# Altium footprint library USB_PD_DVD.PcbLib: 27 footprints (part 2 of 2)
Each footprint in its own frame and in the unit in brackets; x right, y up, seen from the top. Pads: shape width x height; smd on the part's side, far side on the other; paste and mask are expansions set on the pad; w line width, h text height; cw(c..) or ccw(c..) is an arc to the next point about the centre after c.
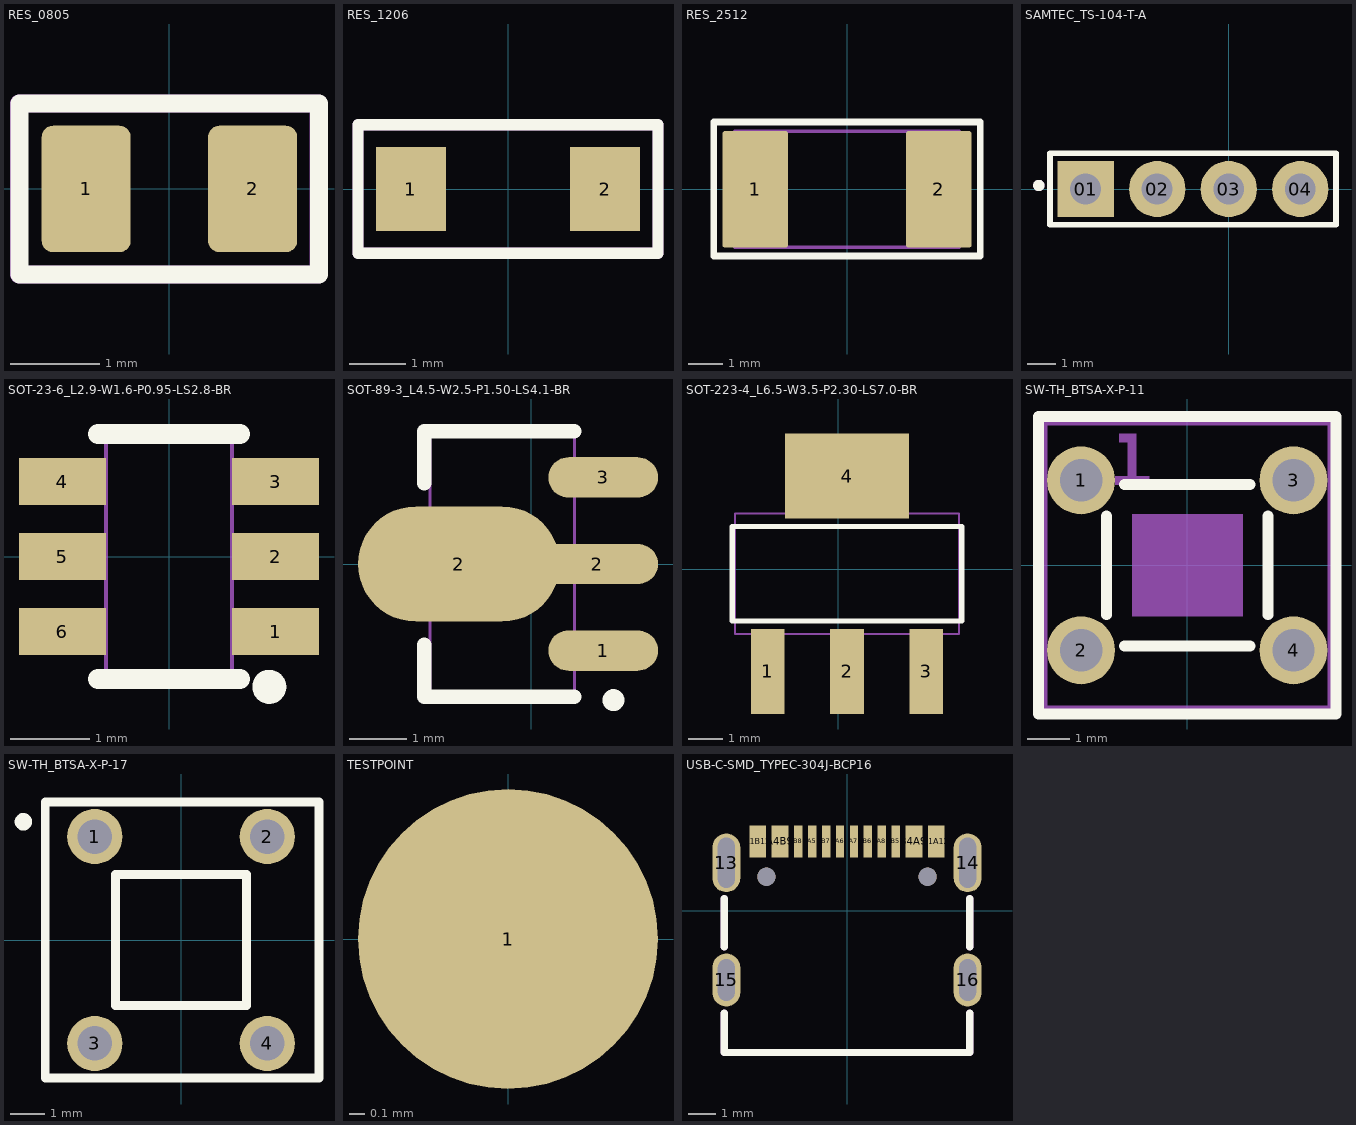
[diagram p1: the footprints below, top view; thin cyan lines are the x and y axes]

## RES_0805 [mm]
pads (2):
  rrect25% 1x1.42 smd: 1(-0.935,0) 2(0.935,0)
Top Overlay:
  lines w0.2: -1.685,-0.962 1.681,-0.962 1.681,0.958 -1.685,0.958 -1.685,-0.962
Top Assembly:
  lines w0.2: -1.69,-0.96 -1.69,0.96 1.676,0.96 1.676,-0.96 -1.69,-0.96
  text ".Designator" at -1.789,-0.187 h1
3D body "User Library-RES0805-2.x_b": height 0.55, standoff 0, extent -0.993,-0.58 1.007,0.67

## RES_1206 [mm]
pads (2):
  rect 1.25x1.5 smd: 1(-1.725,0) 2(1.725,0)
Top Overlay:
  lines w0.2: -2.667,-1.143 -2.667,1.143 -1.778,1.143 2.667,1.143 2.667,-1.143 -2.667,-1.143
Top Assembly:
  lines w0.2: -2.667,-1.143 2.667,-1.143 2.667,1.143 -1.778,1.143 -2.667,1.143 -2.667,-1.143
  text ".Designator" at -2.255,-0.298 h1
3D body "Resistor 1206.step": height 0.6, standoff 0, extent -1.876,-0.778 1.924,0.822

## RES_2512 [mm]
pads (2):
  rrect7% 1.9x3.37 smd: 1(-2.66,0) 2(2.66,0)
Top Overlay:
  lines w0.2: -3.86,-1.931 -3.86,1.949 3.86,1.949 3.86,-1.931 -3.86,-1.931
Top Assembly:
  lines w0.1: -3.25,-1.68 -3.25,1.68 3.25,1.68 3.25,-1.68 -3.25,-1.68
  text ".Designator" at -1.755,-0.198 h1
3D body "2-2176070-7.stp": height 0.53, standoff -0.03, extent -3.277,-1.6 3.023,1.6

## SAMTEC_TS-104-T-A [mm]
pads (4):
  rect 2x2 hole 1.1: 01(-5.08,0)
  round 2 hole 1.1: 02(-2.54,0) 03(0,0) 04(2.54,0)
Top Overlay:
  circle w0.2: c-6.746,0.127 r0.1
  lines w0.2: -6.35,-1.27 -6.35,1.27 3.81,1.27 3.81,-1.27 -6.35,-1.27
Top Assembly:
  circle w0.2: c-6.746,0.127 r0.1
  lines w0.1: -6.35,-1.27 -6.35,1.27 ; -6.35,-1.27 -6.35,1.27 ; -6.35,-1.27 3.81,-1.27 ; -6.35,1.27 3.81,1.27 ; -6.35,1.27 3.81,1.27 ; 3.81,-1.27 3.81,1.27 ; 3.81,-1.27 3.81,1.27
  text ".Designator" at -2.53,-0.147 h1

## SOT-23-6_L2.9-W1.6-P0.95-LS2.8-BR [mm]
pads (6):
  rect 1.1x0.6 smd paste+0 mask+0.051: 1(1.35,-0.95) 2(1.35,0) 3(1.35,0.95) 4(-1.35,0.95) 5(-1.35,0) 6(-1.35,-0.95)
Top Overlay:
  circle w0.254: c1.27,-1.651 r0.089
  lines w0.254: -0.9,-1.55 0.9,-1.55 ; -0.9,1.55 0.9,1.55
Top Assembly:
  region: -0.925,0.735 -0.925,1.165 -1.4,1.165 -1.4,0.735
  region: -0.935,-0.215 -0.935,0.215 -0.79,0.215 -0.79,-0.215
  region: 0.925,-1.165 0.925,-0.735 1.4,-0.735 1.4,-1.165
  region: -0.925,-0.215 -0.925,0.215 -1.4,0.215 -1.4,-0.215
  region: 0.935,1.165 0.935,0.735 0.79,0.735 0.79,1.165
  region: -0.925,-1.165 -0.925,-0.735 -1.4,-0.735 -1.4,-1.165
  region: 0.935,0.215 0.935,-0.215 0.79,-0.215 0.79,0.215
  region: 0.925,-0.215 0.925,0.215 1.4,0.215 1.4,-0.215
  region: 0.925,0.735 0.925,1.165 1.4,1.165 1.4,0.735
  region: 0.935,-0.735 0.935,-1.165 0.79,-1.165 0.79,-0.735
  region: -0.935,-1.165 -0.935,-0.735 -0.79,-0.735 -0.79,-1.165
  region: -0.935,0.735 -0.935,1.165 -0.79,1.165 -0.79,0.735
  region: 1.33,-1.584 1.33,-1.609 1.295,-1.644 1.245,-1.644 1.21,-1.609 1.21,-1.584 1.21,-1.559 1.245,-1.524 1.295,-1.524 1.33,-1.559 1.33,-1.584
  lines w0.051: -0.8,-1.45 -0.8,1.45 0.8,1.45 0.8,-1.45 -0.8,-1.45
  text ".Designator" at 0.16,-1.27 h0.5
Mechanical 6:
  circle w0.2: c1.4,-0.95 r0.1
3D body "User Library-TSOT-23-6(S6).x_t": height 1, standoff 0, extent -1.412,-1.45 1.412,1.45

## SOT-89-3_L4.5-W2.5-P1.50-LS4.1-BR [mm]
pads (4):
  oval 1.9x0.7 smd paste-100 mask+0.051: 1(1.25,-1.501) 3(1.25,1.501)
  oval 3.5x2 smd paste-100 mask+0.051: 2(-1.25,0)
  oval 2.1x0.7 smd paste-100 mask+0.051: 2(1.151,0)
Top Overlay:
  circle w0.254: c1.429,-2.36 r0.062
  lines w0.254: -1.85,-1.4 -1.85,-2.3 0.75,-2.3 ; -1.85,1.4 -1.85,2.3 0.75,2.3
Top Paste:
  drawing of 3 lines, arcs and shapes, not listed
Top Assembly:
  region: 1.524,-2.388 1.524,-2.413 1.489,-2.448 1.439,-2.448 1.404,-2.413 1.404,-2.388 1.404,-2.363 1.439,-2.328 1.489,-2.328 1.524,-2.363 1.524,-2.388
  region: 0.65,-1.294 0.65,-1.709 1.85,-1.709 1.85,-1.294
  region: 0.65,1.709 0.65,1.294 1.85,1.294 1.85,1.709
  region: 0.551,0.233 0.551,-0.233 1.85,-0.233 1.85,0.233
  region: -1.949,-0.8 -2.25,-0.499 -2.247,0.5 -1.943,0.8 -0.024,0.8 0.551,0.23 0.551,-0.23 -0.126,-0.8
  lines w0.051: -1.75,-2.25 -1.75,2.25 0.75,2.25 0.75,-2.25 -1.75,-2.25
  text ".Designator" at -0.242,-2.195 h1
Mechanical 6:
  circle w0.254: c1.455,-1.575 r0.127
3D body "ams1117.step": height 1.52, standoff 0, extent -2.127,-2.25 1.873,2.25

## SOT-223-4_L6.5-W3.5-P2.30-LS7.0-BR [mm]
pads (4):
  rect 0.98x2.47 smd: 1(-2.046,-2.962) 2(0.254,-2.962) 3(2.554,-2.962)
  rect 3.6x2.47 smd: 4(0.254,2.708)
Top Overlay:
  lines w0.152: -3.072,-1.498 3.58,-1.498 3.58,1.244 -3.072,1.244 -3.072,-1.498
Top Assembly:
  region: -2.396,-1.867 -1.696,-1.867 -1.696,-2.687 -2.396,-2.687
  region: 2.204,-2.677 2.904,-2.677 2.904,-3.627 2.204,-3.627
  region: 2.204,-1.867 2.904,-1.867 2.904,-2.687 2.204,-2.687
  region: -1.246,2.423 1.754,2.423 1.754,3.373 -1.246,3.373
  region: -1.246,2.433 1.754,2.433 1.754,1.613 -1.246,1.613
  region: -0.096,-2.677 0.604,-2.677 0.604,-3.627 -0.096,-3.627
  region: -0.096,-1.867 0.604,-1.867 0.604,-2.687 -0.096,-2.687
  region: -2.396,-2.677 -1.696,-2.677 -1.696,-3.627 -2.396,-3.627
  lines w0.051: -2.996,-1.877 3.504,-1.877 3.504,1.623 -2.996,1.623 -2.996,-1.877
  text ".Designator" at -2.322,-0.393 h1
3D body "CircuitWorks-SOT-223.x_t": height 1.7, standoff 0.02, extent -2.996,-3.607 3.504,3.353

## SW-TH_BTSA-X-P-11 [mm]
pads (4):
  round 1.6 hole 1: 1(-2.5,2) 2(-2.5,-2) 3(2.5,2) 4(2.5,-2)
Top Overlay:
  lines w0.254: -1.9,-1.162 -1.9,1.162 ; -1.474,-1.9 1.474,-1.9 ; -1.474,1.9 1.474,1.9 ; 1.9,-1.162 1.9,1.162 ; -3.5,-3.5 3.5,-3.5 3.5,3.5 -3.5,3.5 -3.5,-3.5
Top Assembly:
  region: -1.3,1.2 1.3,1.2 1.3,-1.2 -1.3,-1.2
  region: -1.4,3.1 -1.4,2.1 -1.2,2.1 -1.2,3.1
  region: -1.7,2.1 -0.9,2.1 -0.9,1.9 -1.7,1.9
  region: -1.4,3.1 -1.6,3.1 -1.6,2.9 -1.4,2.9
  region: -3.3,-3.5 3.3,-3.5 3.3,-3.3 -3.3,-3.3
  region: -3.3,3.5 3.5,3.5 3.5,-3.5 3.3,-3.5 3.3,3.3 -3.3,3.3
  region: -3.5,3.5 -3.5,-3.5 -3.3,-3.5 -3.3,3.5
Mechanical 15:
  region: -3.44,3.5 -3.44,3.475 -3.475,3.44 -3.525,3.44 -3.56,3.475 -3.56,3.5 -3.56,3.525 -3.525,3.56 -3.475,3.56 -3.44,3.525 -3.44,3.5
  region: -2.65,1.7 -2.65,2.3 -2.35,2.3 -2.35,1.7
  region: -2.65,-2.3 -2.65,-1.7 -2.35,-1.7 -2.35,-2.3
  region: 2.35,-2.3 2.35,-1.7 2.65,-1.7 2.65,-2.3
  region: 2.35,1.7 2.35,2.3 2.65,2.3 2.65,1.7
  lines w0.051: -3.5,-3.5 3.5,-3.5 3.5,3.5 -3.5,3.5 -3.5,-3.5
3D body "PVA1EEH1--3DModel-STEP-56544.STEP": height 17.84, standoff -3.4, extent -4.6,-4.773 4.6,5.027

## SW-TH_BTSA-X-P-17 [mm]
pads (4):
  round 1.6 hole 1: 1(-2.5,3) 2(2.5,3) 3(-2.5,-3) 4(2.5,-3)
Top Overlay:
  circle w0.254: c-4.572,3.429 r0.127
  lines w0.254: -3.937,-4 -3.937,4 4,4 4,-4 -3.937,-4 ; -1.9,-1.9 1.9,-1.9 1.9,1.9 -1.9,1.9 -1.9,-1.9
Top Assembly:
  region: -3.94,4 -3.94,3.975 -3.975,3.94 -4.025,3.94 -4.06,3.975 -4.06,4 -4.06,4.025 -4.025,4.06 -3.975,4.06 -3.94,4.025 -3.94,4
  lines w0.051: -4,-4 4,-4 4,4 -4,4 -4,-4
  text ".Designator" at -2.329,-0.173 h1
Mechanical 15:
  region: -2.8,3.15 -2.2,3.15 -2.2,2.85 -2.8,2.85
  region: 2.8,2.85 2.2,2.85 2.2,3.15 2.8,3.15
  region: 2.8,-3.15 2.2,-3.15 2.2,-2.85 2.8,-2.85
  region: -2.2,-3.15 -2.8,-3.15 -2.8,-2.85 -2.2,-2.85
3D body "PVA1EEH1--3DModel-STEP-56544.STEP": height 17.84, standoff -3.4, extent -4.9,-4.727 4.9,4.473

## TESTPOINT [mm]
pads (1):
  round 2 smd: 1(0,0)

## USB-C-SMD_TYPEC-304J-BCP16 [mm]
pads (18):
  oval 1x2.1 hole 0.6 slot 1.8 at 90 deg paste-2539.97 mask+0.051: 13(-4.325,1.719) 14(4.325,1.719)
  oval 1x1.9 hole 0.6 slot 1.5 at 90 deg paste-2539.97 mask+0.051: 15(-4.325,-2.481) 16(4.325,-2.481)
  rect 0.6x1.15 smd mask+0.04: A1B12(-3.2,2.481) A4B9(-2.4,2.481) B1A12(3.2,2.481) B4A9(2.4,2.481)
  rect 0.3x1.15 smd mask+0.04: A5(-1.25,2.481) A6(-0.25,2.481) A7(0.25,2.481) A8(1.25,2.481) B5(1.75,2.481) B6(0.75,2.481) B7(-0.75,2.481) B8(-1.75,2.481)
  round 0.65 hole 0.65 unplated paste-2539.97: ""(-2.89,1.219) ""(2.89,1.219)
Top Overlay:
  lines w0.254: -4.4,-3.659 -4.4,-5.081 4.4,-5.081 4.4,-3.659 ; -4.4,-1.304 -4.4,0.441 ; 4.4,-1.304 4.4,0.441
Top Paste:
  region: 3.825,-2.031 3.825,-1.932 3.901,-1.748 4.042,-1.607 4.226,-1.531 4.424,-1.531 4.608,-1.607 4.749,-1.748 4.825,-1.932 4.825,-2.031 4.825,-2.931 4.825,-3.031 4.749,-3.215 4.608,-3.355 4.424,-3.431 4.226,-3.431 4.042,-3.355 3.901,-3.215 3.825,-3.031 3.825,-2.931
  region: -4.825,-2.031 -4.825,-1.932 -4.749,-1.748 -4.608,-1.607 -4.424,-1.531 -4.226,-1.531 -4.042,-1.607 -3.901,-1.748 -3.825,-1.932 -3.825,-2.031 -3.825,-2.931 -3.825,-3.031 -3.901,-3.215 -4.042,-3.355 -4.226,-3.431 -4.424,-3.431 -4.608,-3.355 -4.749,-3.215 -4.825,-3.031 -4.825,-2.931
  region: 3.825,2.269 3.825,2.368 3.901,2.552 4.042,2.692 4.226,2.769 4.424,2.769 4.608,2.692 4.749,2.552 4.825,2.368 4.825,2.269 4.825,1.169 4.825,1.069 4.749,0.885 4.608,0.745 4.424,0.669 4.226,0.669 4.042,0.745 3.901,0.885 3.825,1.069 3.825,1.169
  region: -4.825,2.269 -4.825,2.368 -4.749,2.552 -4.608,2.692 -4.424,2.769 -4.226,2.769 -4.042,2.692 -3.901,2.552 -3.825,2.368 -3.825,2.269 -3.825,1.169 -3.825,1.069 -3.901,0.885 -4.042,0.745 -4.226,0.669 -4.424,0.669 -4.608,0.745 -4.749,0.885 -4.825,1.069 -4.825,1.169
  region: 2.9,3.056 3.5,3.056 3.5,1.906 2.9,1.906
  region: 2.1,3.056 2.7,3.056 2.7,1.906 2.1,1.906
  region: 1.6,3.056 1.9,3.056 1.9,1.906 1.6,1.906
  region: 1.1,3.056 1.4,3.056 1.4,1.906 1.1,1.906
  region: 0.6,3.056 0.9,3.056 0.9,1.906 0.6,1.906
  region: 0.1,3.056 0.4,3.056 0.4,1.906 0.1,1.906
  region: -0.4,3.056 -0.1,3.056 -0.1,1.906 -0.4,1.906
  region: -0.9,3.056 -0.6,3.056 -0.6,1.906 -0.9,1.906
  region: -1.4,3.056 -1.1,3.056 -1.1,1.906 -1.4,1.906
  region: -1.9,3.056 -1.6,3.056 -1.6,1.906 -1.9,1.906
  region: -2.7,3.056 -2.1,3.056 -2.1,1.906 -2.7,1.906
  region: -3.5,3.056 -2.9,3.056 -2.9,1.906 -3.5,1.906
Top Assembly:
  lines w0.254: -4.4,-3.659 -4.4,-5.081 4.4,-5.081 4.4,-3.659 ; -4.4,-1.304 -4.4,0.441 ; 4.4,-1.304 4.4,0.441
  text ".Designator" at -0.26,0.018 h1
Mechanical 15:
  circle w0.3: c2.89,1.219 r0.15
  circle w0.3: c-2.89,1.219 r0.15
3D body "10155435-00011LF--3DModel-STEP-510211.STEP": height 0.5, standoff -3.66, extent -4.47,-5.058 4.47,2.54